# EAGLE library part DLS2PP5AN23X (library untitled)
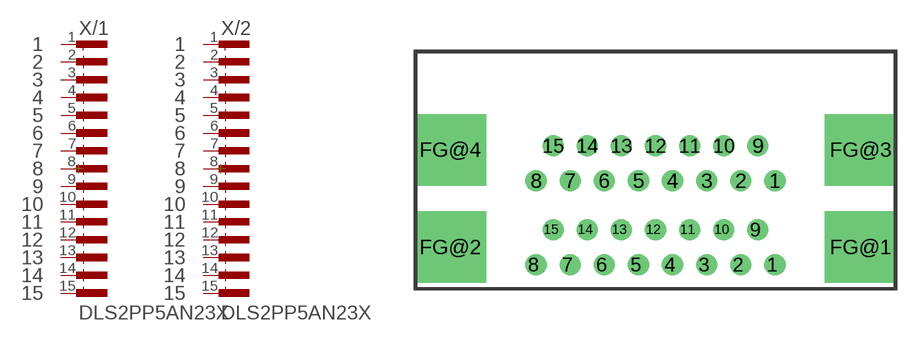
[diagram p2: symbol with the pads of DLS2PP5AN23X; footprint DLS2PP5AN23X]

Designator prefix X; gates /1=ST15 /2=ST15 BEF1=BEFESTIGUNG BEF2=BEFESTIGUNG BEF3=BEFESTIGUNG BEF4=BEFESTIGUNG

## DLS2PP5AN23X  [DLS2PP5AN23X]
1  /1:1  pas
1  /2:1  pas
2  /1:2  pas
2  /2:2  pas
3  /1:3  pas
3  /2:3  pas
4  /1:4  pas
4  /2:4  pas
5  /1:5  pas
5  /2:5  pas
6  /1:6  pas
6  /2:6  pas
7  /1:7  pas
7  /2:7  pas
8  /1:8  pas
8  /2:8  pas
9  /1:9  pas
9  /2:9  pas
10  /1:10  pas
10  /2:10  pas
11  /1:11  pas
11  /2:11  pas
12  /1:12  pas
12  /2:12  pas
13  /1:13  pas
13  /2:13  pas
14  /1:14  pas
14  /2:14  pas
15  /1:15  pas
15  /2:15  pas
FG@1  BEF1:1  pas
FG@2  BEF2:1  pas
FG@3  BEF3:1  pas
FG@4  BEF4:1  pas

## Footprint DLS2PP5AN23X (pad centres in mm)
drill 1 pad 1.72 round: 1 9.695,-10.62; 1  9.695,-17.42; 2 6.925,-10.62; 2  6.925,-17.42; 3 4.155,-10.62; 3  4.155,-17.42; 4 1.385,-10.62; 4  1.385,-17.42; 5 -1.385,-10.62; 5  -1.385,-17.42; 6 -4.155,-10.62; 6  -4.155,-17.42; 7 -6.925,-10.62; 7  -6.925,-17.42; 8 -9.695,-10.62; 8  -9.695,-17.42; 9 8.31,-7.78; 9  8.31,-14.58; 10 5.54,-7.78; 10  5.54,-14.58; 11 2.77,-7.78; 11  2.77,-14.58; 12 0,-7.78; 12  0,-14.58; 13 -2.77,-7.78; 13  -2.77,-14.58; 14 -5.54,-7.78; 14  -5.54,-14.58; 15 -8.31,-7.78; 15  -8.31,-14.58
drill 3.1 pad 5.8 square: FG@1 16.65,-16; FG@2 -16.65,-16; FG@3 16.65,-8.1; FG@4 -16.65,-8.1